# Altium footprint library 0.33uF.PcbLib: 2 footprints
Each footprint in its own frame and in the unit in brackets; x right, y up, seen from the top. Pads: shape width x height; smd on the part's side, far side on the other; paste and mask are expansions set on the pad; w line width, h text height; cw(c..) or ccw(c..) is an arc to the next point about the centre after c.
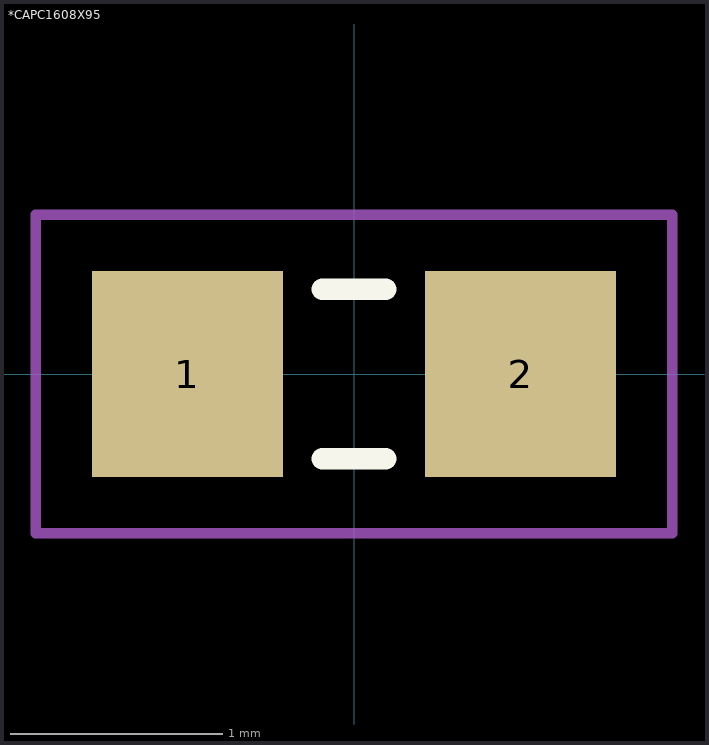
[diagram p0: the footprints below, top view; thin cyan lines are the x and y axes]

## *CAPC1608X95 [mm]
pads (2):
  rect 0.9x0.97 smd: 1(-0.785,0) 2(0.785,0)
Top Overlay:
  lines w0.1: -0.15,-0.4 0.15,-0.4 ; -0.15,0.4 0.15,0.4
Mechanical 16:
  lines w0.05: -1.5,-0.75 -1.5,0.75 1.5,0.75 1.5,-0.75 -1.5,-0.75

## PCBComponent_1 [mm]